# Altium footprint library TSOP-2-44.PcbLib: 1 footprints
Each footprint in its own frame and in the unit in brackets; x right, y up, seen from the top. Pads: shape width x height; smd on the part's side, far side on the other; paste and mask are expansions set on the pad; w line width, h text height; cw(c..) or ccw(c..) is an arc to the next point about the centre after c.
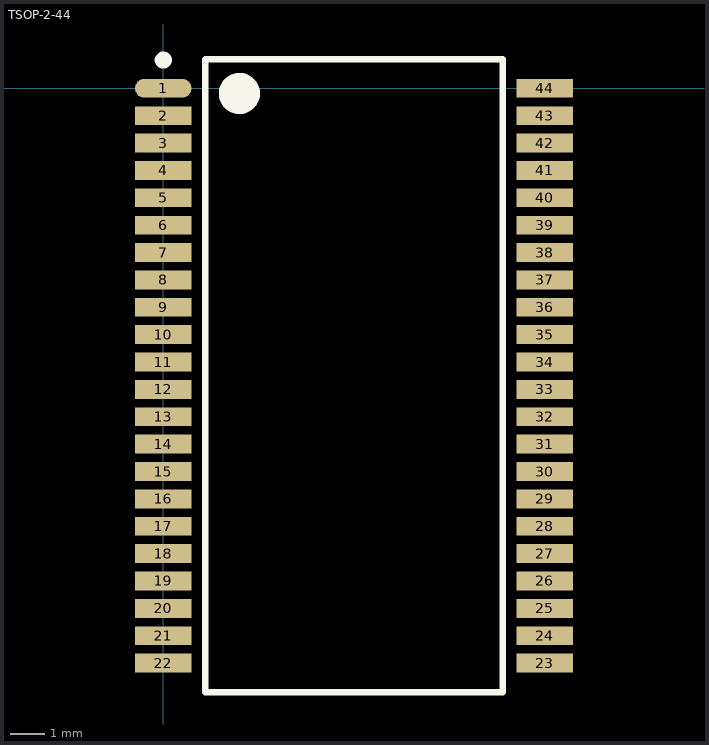
[diagram p0: the footprint, top view; thin cyan lines are the x and y axes]

## TSOP-2-44 [mm] "SOP, 44-Leads, Body 18.5x10.3mm, Pitch 0.8mm, IPC Medium Density"
height 1.2
pads (44):
  oval 1.65x0.55 smd: 1(0,0)
  rect 1.65x0.55 smd: 2(0,-0.8) 3(0,-1.6) 4(0,-2.4) 5(0,-3.2) 6(0,-4) 7(0,-4.8) 8(0,-5.6) 9(0,-6.4) 10(0,-7.2) 11(0,-8) 12(0,-8.8) 13(0,-9.6) 14(0,-10.4) 15(0,-11.2) 16(0,-12) 17(0,-12.8) 18(0,-13.6) 19(0,-14.4) 20(0,-15.2) 21(0,-16) 22(0,-16.8) 23(11.15,-16.8) 24(11.15,-16) 25(11.15,-15.2) 26(11.15,-14.4) 27(11.15,-13.6) 28(11.15,-12.8) 29(11.15,-12) 30(11.15,-11.2) 31(11.15,-10.4) 32(11.15,-9.6) 33(11.15,-8.8) 34(11.15,-8) 35(11.15,-7.2) 36(11.15,-6.4) 37(11.15,-5.6) 38(11.15,-4.8) 39(11.15,-4) 40(11.15,-3.2) 41(11.15,-2.4) 42(11.15,-1.6) 43(11.15,-0.8) 44(11.15,0)
Top Overlay:
  circle w0.25: c0,0.825 r0.125
  circle w0.6: c2.225,-0.15 r0.3
  lines w0.2: 1.225,-17.65 1.225,0.85 9.925,0.85 9.925,-17.65 1.225,-17.65
3D body "TSOP2-44.step": height 1.09, standoff -0.01, extent -0.305,-17.61 11.455,0.81